# Altium footprint library LC_0603-STD.PcbLib: 1 footprints
Each footprint in its own frame and in the unit in brackets; x right, y up, seen from the top. Pads: shape width x height; smd on the part's side, far side on the other; paste and mask are expansions set on the pad; w line width, h text height; cw(c..) or ccw(c..) is an arc to the next point about the centre after c.
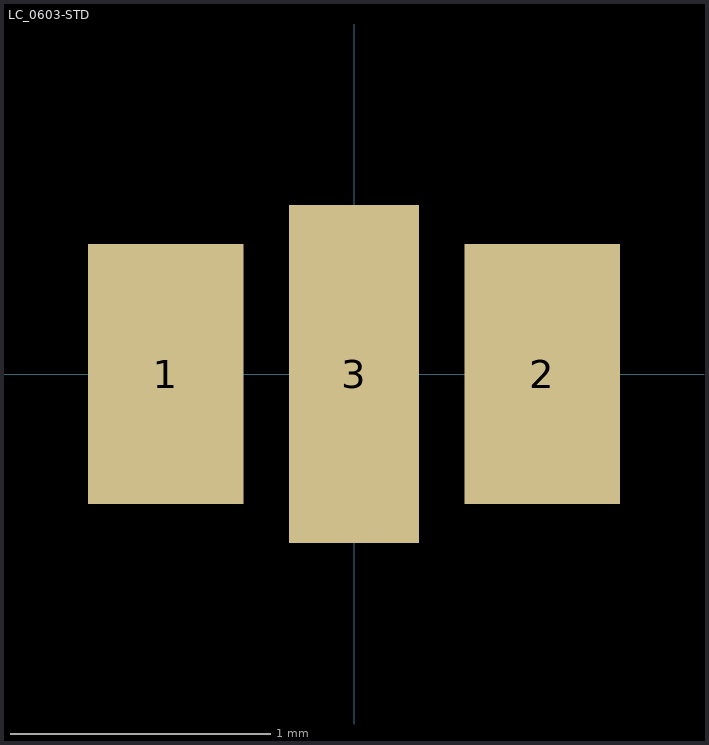
[diagram p0: the footprint, top view; thin cyan lines are the x and y axes]

## LC_0603-STD [mm]
pads (3):
  rect 0.6x1 smd: 1(-0.725,0) 2(0.725,0)
  rect 0.5x1.3 smd: 3(0,0)
3D body: height 0.6, standoff 0, extent -0.8,-0.409 0.8,0.409